# EAGLE library part 691408720011B (library Wurth_Connectors_WR-TBL Spring Clamp)
WR-TBL Series 4087B - Screwless Push In 5.0mm pitch - 45° cable entry - THT KIND PROPERTIES Pitch 5 mm GENERAL INFORMATION Operating Temperature -40 up to +105 °C Mechanical Properties Wire Strip Length 9 up to 10 (mm) Wire Properties Solid Wire Section (AWG) 28 to 12 (AWG) Solid Wire Section (Metric) 0.2 to 2.5 (mm²) Stranded Wire Section (AWG) 28 to 12 (AWG) Stranded Wire Section (Metric) 0.2 to 2.5 (mm²) MATERIAL PROPERTIES Insulator Material PA66 Insulator Flammability Rating UL94 V-0 Insulator Color Green Spring Material Stainless Steel ELECTRICAL PROPERTIES cULus 15 A Working Voltage 300 V Working Voltage [cULus] 300 V Withstanding Voltage [cULus] 1600 V Contact Resistance [cULus] 20 mΩ CERTIFICATION cULus Approval E315414 Packaging Properties Packaging Box <https://www.we-online.com/katalog/media/o257338v209%206914087200xxB_multi-parts.jpg> Details see: https://www.we-online.com/catalog/en/WR-TBL_SERIES4087B_SCREWLESS-PUSH-IN-5_0MM-PITCH_45__CABLE-ENTRY_THT Created by Ella Wu 2021-02-24 2021(C) Wurth Elektronik
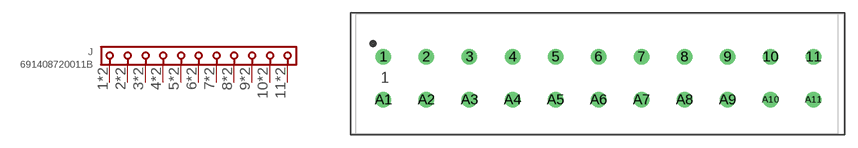
[diagram p140: symbol with the pads of 691408720011B; footprint 691408720011B]

Designator prefix J

## 691408720011B (DATASHEET-URL: https://www.we-online.com/redexpert/spec/691408720011B?ae; IR-UL: 15A; MOUNT: THT; PART-NUMBER: 691408720011B; PINS: 11; PITCH: 5mm; TYPE: 45° Cable Entry; VALUE: 691408720011B; WIRE: 28 to 12 (AWG) 0.2 to 2.5 (mm²); WORKING-VOLTAGE-UL: 300V (AC))  [691408720011B]
1  1  pas
2  2  pas
3  3  pas
4  4  pas
5  5  pas
6  6  pas
7  7  pas
8  8  pas
9  9  pas
10  10  pas
11  11  pas
A1  1  pas
A2  2  pas
A3  3  pas
A4  4  pas
A5  5  pas
A6  6  pas
A7  7  pas
A8  8  pas
A9  9  pas
A10  10  pas
A11  11  pas

## Footprint 691408720011B (pad centres in mm)
WR-TBL Series 4087B - Screwless Push In 5.0mm pitch - 45° cable entry - THT Series 4087B, Pitch 5mm,THT, 11pins
drill 1.2: 1 -25,2.5; 2 -20,2.5; 3 -15,2.5; 4 -10,2.5; 5 -5,2.5; 6 0,2.5; 7 5,2.5; 8 10,2.5; 9 15,2.5; 10 20,2.5; 11 25,2.5; A1 -25,-2.5; A2 -20,-2.5; A3 -15,-2.5; A4 -10,-2.5; A5 -5,-2.5; A6 0,-2.5; A7 5,-2.5; A8 10,-2.5; A9 15,-2.5; A10 20,-2.5; A11 25,-2.5